# Altium footprint library Transistor.PcbLib: 227 footprints (part 4 of 15)
Each footprint in its own frame and in the unit in brackets; x right, y up, seen from the top. Pads: shape width x height; smd on the part's side, far side on the other; paste and mask are expansions set on the pad; w line width, h text height; cw(c..) or ccw(c..) is an arc to the next point about the centre after c.
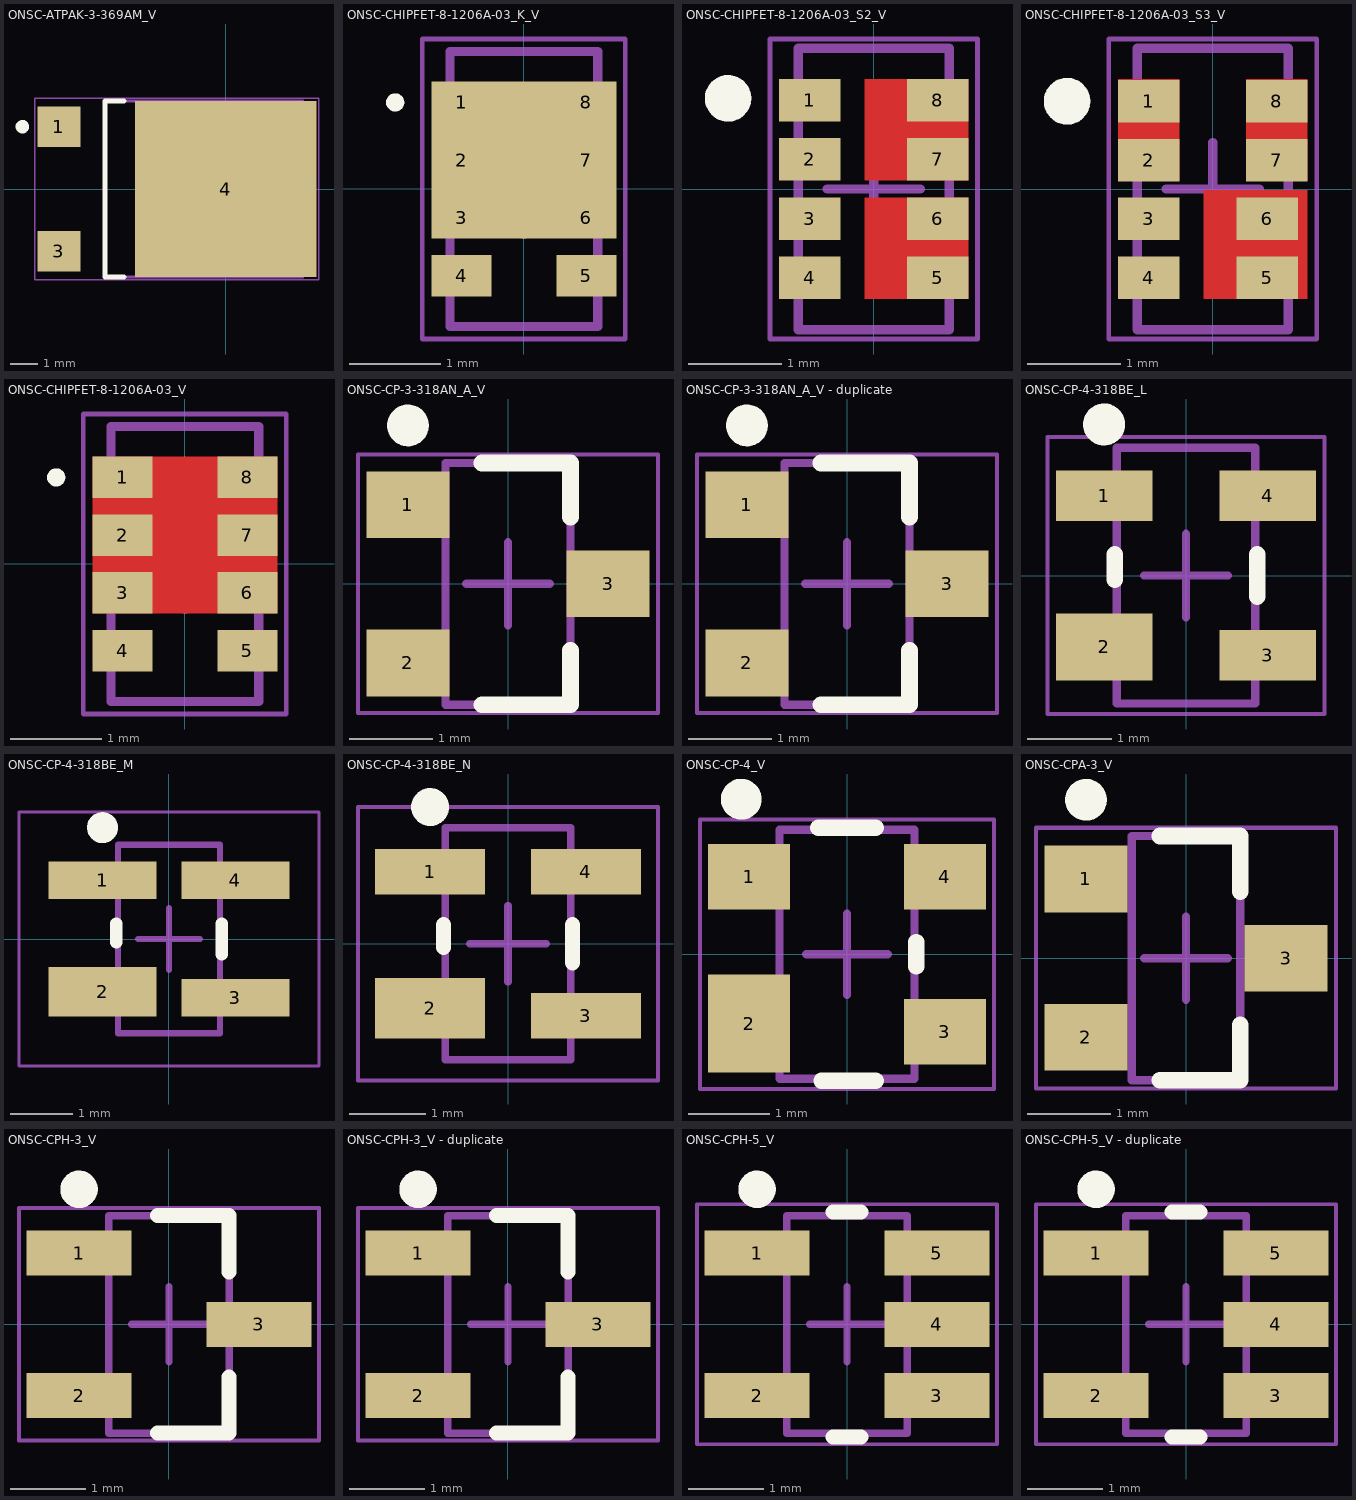
[diagram p3: the footprints below, top view; thin cyan lines are the x and y axes]

## ONSC-ATPAK-3-369AM_V [mm] "DPAK, 3-Leads, Body 7.3x6.5mm, Pitch 2.3mm"
height 1.77
pads (3):
  rect 1.6x1.5 smd: 1(-6.15,2.3) 3(-6.15,-2.3)
  rect 6.7x6.5 smd: 4(0,0)
Top Overlay:
  circle w0.25: c-7.5,2.3 r0.125
  lines w0.2: -3.75,-3.25 -4.45,-3.25 -4.45,3.25 -3.75,3.25
Mechanical 13:
  lines w0.1: -4.45,-3.25 2.85,-3.25 2.85,3.25 -4.45,3.25 -4.45,-3.25
Mechanical 15:
  lines w0.05: -7.05,-3.35 3.45,-3.35 3.45,3.35 -7.05,3.35 -7.05,-3.35
  lines w0.1: -0.5,0 0.5,0 ; 0,-0.5 0,0.5
3D body: height 1.77, standoff 0.02, extent -4.45,-3.25 2.85,3.25

## ONSC-CHIPFET-8-1206A-03_K_V [mil] "SON, 8-Leads, Body 3.026x1.626mm, Pitch 0.65mm"
height 43.31
pads (9):
  rect 25.98x17.99 smd: 1(-27.01,37.5) 2(-27.01,12.5) 3(-27.01,-12.5) 4(-27.01,-37.5) 5(27.01,-37.5) 6(27.01,-12.5) 7(27.01,12.5) 8(27.01,37.5)
  rect 80x67.99 smd: ""(0,12.5)
Top Overlay:
  circle w3.94: c-55.75,37.5 r1.97
Mechanical 13:
  lines w3.94: -31.99,-59.55 31.99,-59.55 31.99,59.57 -31.99,59.57 -31.99,-59.55
Mechanical 15:
  lines w1.97: -43.94,-64.96 43.94,-64.96 43.94,64.96 -43.94,64.96 -43.94,-64.96
  lines w3.94: -19.68,0 19.69,0 ; 0,-19.69 0,19.68
3D body: height 43.31, standoff 0, extent -31.99,-59.55 31.99,59.55

## ONSC-CHIPFET-8-1206A-03_S2_V [mm] "SON, 8-Leads, Body 3.025x1.625mm, Pitch 0.635mm"
height 1.1
pads (8):
  rect 0.66x0.457 smd: 1(-0.686,0.953) 2(-0.686,0.318) 3(-0.686,-0.318) 4(-0.686,-0.953) 5(0.686,-0.953) 6(0.686,-0.318) 7(0.686,0.318) 8(0.686,0.953)
Top Layer:
  rectangle: -0.102,0.089 1.016,1.181
  rectangle: -0.102,-1.181 1.016,-0.089
Top Overlay:
  circle w0.25: c-1.566,0.975 r0.125
Mechanical 13:
  lines w0.1: -0.813,-1.512 0.813,-1.512 0.813,1.512 -0.813,1.512 -0.813,-1.512
Mechanical 15:
  lines w0.05: -1.116,-1.613 1.116,-1.613 1.116,1.613 -1.116,1.613 -1.116,-1.613
  lines w0.1: -0.5,0 0.5,0 ; 0,-0.5 0,0.5
3D body: height 1.1, standoff 0, extent -0.825,-1.525 0.825,1.525

## ONSC-CHIPFET-8-1206A-03_S3_V [mm] "SON, 8-Leads, Body 3.025x1.625mm, Pitch 0.65mm"
height 1.1
pads (8):
  rect 0.66x0.457 smd mask+0: 1(-0.686,0.943) 2(-0.686,0.308) 5(0.584,-0.953) 6(0.584,-0.318) 7(0.686,0.308) 8(0.686,0.943)
  rect 0.66x0.457 smd: 3(-0.686,-0.318) 4(-0.686,-0.953)
Top Layer:
  rectangle: -0.102,-1.181 1.016,-0.009
  region: 1.016,1.181 0.356,1.181 0.356,0.089 1.016,0.089
  rectangle: -1.016,0.089 -0.356,1.181
Top Overlay:
  circle w0.25: c-1.566,0.943 r0.125
Mechanical 13:
  lines w0.1: -0.813,-1.512 0.813,-1.512 0.813,1.512 -0.813,1.512 -0.813,-1.512
Mechanical 15:
  lines w0.05: -1.116,-1.612 -1.116,1.612 1.116,1.612 1.116,-1.612 -1.116,-1.612
  lines w0.1: -0.5,0 0.5,0 ; 0,-0.5 0,0.5
3D body: height 1.1, standoff 0, extent -0.813,-1.524 0.813,1.524

## ONSC-CHIPFET-8-1206A-03_V [mm] "SON, 8-Leads, Body 3.026x1.626mm, Pitch 0.635mm"
height 1.1
pads (8):
  rect 0.66x0.457 smd: 1(-0.686,0.953) 2(-0.686,0.318) 3(-0.686,-0.318) 4(-0.686,-0.953) 5(0.686,-0.953) 6(0.686,-0.318) 7(0.686,0.318) 8(0.686,0.953)
Top Layer:
  rectangle: -1.016,-0.546 1.016,1.181
Top Overlay:
  circle w0.1: c-1.416,0.953 r0.05
Mechanical 13:
  lines w0.1: -0.812,-1.513 0.813,-1.513 0.813,1.513 -0.812,1.513 -0.812,-1.513
Mechanical 15:
  lines w0.05: -1.116,-1.65 1.116,-1.65 1.116,1.65 -1.116,1.65 -1.116,-1.65
  lines w0.1: -0.5,0 0.5,0 ; 0,-0.5 0,0.5
3D body: height 1.1, standoff 0, extent -0.812,-1.513 0.813,1.512

## ONSC-CP-3-318AN_A_V [mm] "SOT23, 3-Leads, Body 2.9x1.5mm, Pitch 0.95mm"
height 1.308
pads (3):
  rect 1x0.8 smd: 1(-1.2,0.95) 2(-1.2,-0.95) 3(1.2,0)
Top Overlay:
  circle w0.25: c-1.2,1.9 r0.125
  lines w0.2: -0.313,-1.45 0.75,-1.45 0.75,-0.8 ; -0.313,1.45 0.75,1.45 0.75,0.8
Mechanical 13:
  lines w0.1: -0.75,-1.45 0.75,-1.45 0.75,1.45 -0.75,1.45 -0.75,-1.45
Mechanical 15:
  lines w0.05: -1.8,-1.55 1.8,-1.55 1.8,1.55 -1.8,1.55 -1.8,-1.55
  lines w0.1: -0.5,0 0.5,0 ; 0,-0.5 0,0.5
3D body: height 1.31, standoff 0, extent -0.75,-1.45 0.75,1.45

## ONSC-CP-3-318AN_A_V - duplicate [mm] "SOT23, 3-Leads, Body 2.9x1.5mm, Pitch 0.95mm"
height 1.308
pads (3):
  rect 1x0.8 smd: 1(-1.2,0.95) 2(-1.2,-0.95) 3(1.2,0)
Top Overlay:
  circle w0.25: c-1.2,1.9 r0.125
  lines w0.2: -0.313,-1.45 0.75,-1.45 0.75,-0.8 ; -0.313,1.45 0.75,1.45 0.75,0.8
Mechanical 13:
  lines w0.1: -0.75,-1.45 0.75,-1.45 0.75,1.45 -0.75,1.45 -0.75,-1.45
Mechanical 15:
  lines w0.05: -1.8,-1.55 1.8,-1.55 1.8,1.55 -1.8,1.55 -1.8,-1.55
  lines w0.1: -0.5,0 0.5,0 ; 0,-0.5 0,0.5
3D body: height 1.31, standoff 0, extent -0.75,-1.45 0.75,1.45

## ONSC-CP-4-318BE_L [mm] "SOT143, 4-Leads, Body 3.05x1.65mm, Pitch 1.9mm, IPC High Density"
height 1.31
pads (4):
  rect 1.15x0.6 smd: 1(-0.975,0.95) 3(0.975,-0.95) 4(0.975,0.95)
  rect 1.15x0.8 smd: 2(-0.975,-0.85)
Top Overlay:
  circle w0.25: c-0.975,1.8 r0.125
  lines w0.2: -0.85,-0.05 -0.85,0.25 ; 0.85,-0.25 0.85,0.25
Mechanical 13:
  lines w0.1: -0.825,-1.525 -0.825,1.525 0.825,1.525 0.825,-1.525 -0.825,-1.525
Mechanical 15:
  lines w0.05: -1.65,-1.65 -1.65,1.65 1.65,1.65 1.65,-1.65 -1.65,-1.65
  lines w0.1: -0.5,0 0.5,0 ; 0,-0.5 0,0.5
3D body: height 1.31, standoff 0, extent -0.825,-1.525 0.825,1.525

## ONSC-CP-4-318BE_M [mm] "SOT143, 4-Leads, Body 3.05x1.65mm, Pitch 1.9mm, IPC Low Density"
height 1.31
pads (4):
  rect 1.75x0.6 smd: 1(-1.075,0.95) 3(1.075,-0.95) 4(1.075,0.95)
  rect 1.75x0.8 smd: 2(-1.075,-0.85)
Top Overlay:
  circle w0.25: c-1.075,1.8 r0.125
  lines w0.2: -0.85,-0.05 -0.85,0.25 ; 0.85,-0.25 0.85,0.25
Mechanical 13:
  lines w0.1: -0.825,-1.525 -0.825,1.525 0.825,1.525 0.825,-1.525 -0.825,-1.525
Mechanical 15:
  lines w0.05: -2.425,-2.05 -2.425,2.05 2.425,2.05 2.425,-2.05 -2.425,-2.05
  lines w0.1: -0.5,0 0.5,0 ; 0,-0.5 0,0.5
3D body: height 1.31, standoff 0, extent -0.825,-1.525 0.825,1.525

## ONSC-CP-4-318BE_N [mm] "SOT143, 4-Leads, Body 3.05x1.65mm, Pitch 1.9mm, IPC Medium Density"
height 1.31
pads (4):
  rect 1.45x0.6 smd: 1(-1.025,0.95) 3(1.025,-0.95) 4(1.025,0.95)
  rect 1.45x0.8 smd: 2(-1.025,-0.85)
Top Overlay:
  circle w0.25: c-1.025,1.8 r0.125
  lines w0.2: -0.85,-0.05 -0.85,0.25 ; 0.85,-0.25 0.85,0.25
Mechanical 13:
  lines w0.1: -0.825,-1.525 -0.825,1.525 0.825,1.525 0.825,-1.525 -0.825,-1.525
Mechanical 15:
  lines w0.05: -1.975,-1.8 -1.975,1.8 1.975,1.8 1.975,-1.8 -1.975,-1.8
  lines w0.1: -0.5,0 0.5,0 ; 0,-0.5 0,0.5
3D body: height 1.31, standoff 0, extent -0.825,-1.525 0.825,1.525

## ONSC-CP-4_V [mm] "SOT, 4-Leads, Body 3.05x1.65mm"
height 1.31
pads (4):
  rect 1x0.8 smd: 1(-1.2,0.95) 3(1.2,-0.95) 4(1.2,0.95)
  rect 1x1.2 smd: 2(-1.2,-0.85)
Top Overlay:
  circle w0.25: c-1.295,1.9 r0.125
  lines w0.2: -0.354,1.55 0.354,1.55 ; -0.313,-1.55 0.354,-1.55 ; 0.85,-0.15 0.85,0.15
Mechanical 13:
  lines w0.1: -0.825,-1.525 0.825,-1.525 0.825,1.525 -0.825,1.525 -0.825,-1.525
Mechanical 15:
  lines w0.05: -1.8,-1.65 1.8,-1.65 1.8,1.65 -1.8,1.65 -1.8,-1.65
  lines w0.1: -0.5,0 0.5,0 ; 0,-0.5 0,0.5
3D body: height 1.31, standoff 0, extent -0.825,-1.525 0.825,1.525

## ONSC-CPA-3_V [mm] "SOT23, 3-Leads, Body 2.93x1.3mm, Pitch 0.95mm"
height 1.3
pads (3):
  rect 1x0.8 smd: 1(-1.2,0.95) 2(-1.2,-0.95) 3(1.2,0)
Top Overlay:
  circle w0.25: c-1.2,1.9 r0.125
  lines w0.2: -0.317,-1.465 0.65,-1.465 0.65,-0.797 ; -0.317,1.465 0.65,1.465 0.65,0.797
Mechanical 13:
  lines w0.1: -0.65,-1.465 -0.65,1.465 0.65,1.465 0.65,-1.465 -0.65,-1.465
Mechanical 15:
  lines w0.05: -1.8,-1.565 1.8,-1.565 1.8,1.565 -1.8,1.565 -1.8,-1.565
  lines w0.1: -0.5,0 0.5,0 ; 0,-0.5 0,0.5
3D body: height 1.3, standoff 0, extent -0.65,-1.465 0.65,1.465

## ONSC-CPH-3_V [mm] "SOT23, 3-Leads, Body 2.9x1.6mm, Pitch 0.95mm"
height 1.05
pads (3):
  rect 1.4x0.6 smd: 1(-1.2,0.95) 2(-1.2,-0.95) 3(1.2,0)
Top Overlay:
  circle w0.25: c-1.2,1.8 r0.125
  lines w0.2: -0.154,-1.45 0.8,-1.45 0.8,-0.7 ; -0.154,1.45 0.8,1.45 0.8,0.7
Mechanical 13:
  lines w0.1: -0.8,-1.45 0.8,-1.45 0.8,1.45 -0.8,1.45 -0.8,-1.45
Mechanical 15:
  lines w0.05: -2,-1.55 2,-1.55 2,1.55 -2,1.55 -2,-1.55
  lines w0.1: -0.5,0 0.5,0 ; 0,-0.5 0,0.5
3D body: height 1.05, standoff 0, extent -0.8,-1.45 0.8,1.45

## ONSC-CPH-3_V - duplicate [mm] "SOT23, 3-Leads, Body 2.9x1.6mm, Pitch 0.95mm"
height 1.05
pads (3):
  rect 1.4x0.6 smd: 1(-1.2,0.95) 2(-1.2,-0.95) 3(1.2,0)
Top Overlay:
  circle w0.25: c-1.2,1.8 r0.125
  lines w0.2: -0.154,-1.45 0.8,-1.45 0.8,-0.7 ; -0.154,1.45 0.8,1.45 0.8,0.7
Mechanical 13:
  lines w0.1: -0.8,-1.45 0.8,-1.45 0.8,1.45 -0.8,1.45 -0.8,-1.45
Mechanical 15:
  lines w0.05: -2,-1.55 2,-1.55 2,1.55 -2,1.55 -2,-1.55
  lines w0.1: -0.5,0 0.5,0 ; 0,-0.5 0,0.5
3D body: height 1.05, standoff 0, extent -0.8,-1.45 0.8,1.45

## ONSC-CPH-5_V [mm] "SOT23, 5-Leads, Body 2.9x1.6mm, Pitch 0.95mm"
height 1.02
pads (5):
  rect 1.4x0.6 smd: 1(-1.2,0.95) 2(-1.2,-0.95) 3(1.2,-0.95) 4(1.2,0) 5(1.2,0.95)
Top Overlay:
  circle w0.25: c-1.2,1.8 r0.125
  lines w0.2: -0.188,-1.5 0.188,-1.5 ; -0.188,1.5 0.188,1.5
Mechanical 13:
  lines w0.1: -0.8,-1.45 -0.8,1.45 0.8,1.45 0.8,-1.45 -0.8,-1.45
Mechanical 15:
  lines w0.05: -2,-1.6 -2,1.6 2,1.6 2,-1.6 -2,-1.6
  lines w0.1: -0.5,0 0.5,0 ; 0,-0.5 0,0.5
3D body: height 1.02, standoff 0, extent -0.8,-1.45 0.8,1.45

## ONSC-CPH-5_V - duplicate [mm] "SOT23, 5-Leads, Body 2.9x1.6mm, Pitch 0.95mm"
height 1.02
pads (5):
  rect 1.4x0.6 smd: 1(-1.2,0.95) 2(-1.2,-0.95) 3(1.2,-0.95) 4(1.2,0) 5(1.2,0.95)
Top Overlay:
  circle w0.25: c-1.2,1.8 r0.125
  lines w0.2: -0.188,-1.5 0.188,-1.5 ; -0.188,1.5 0.188,1.5
Mechanical 13:
  lines w0.1: -0.8,-1.45 -0.8,1.45 0.8,1.45 0.8,-1.45 -0.8,-1.45
Mechanical 15:
  lines w0.05: -2,-1.6 -2,1.6 2,1.6 2,-1.6 -2,-1.6
  lines w0.1: -0.5,0 0.5,0 ; 0,-0.5 0,0.5
3D body: height 1.02, standoff 0, extent -0.8,-1.45 0.8,1.45